# Altium integrated library ON Semi ESD Protection Diodes & Arrays.IntLib: 286 symbols (part 5 of 8)
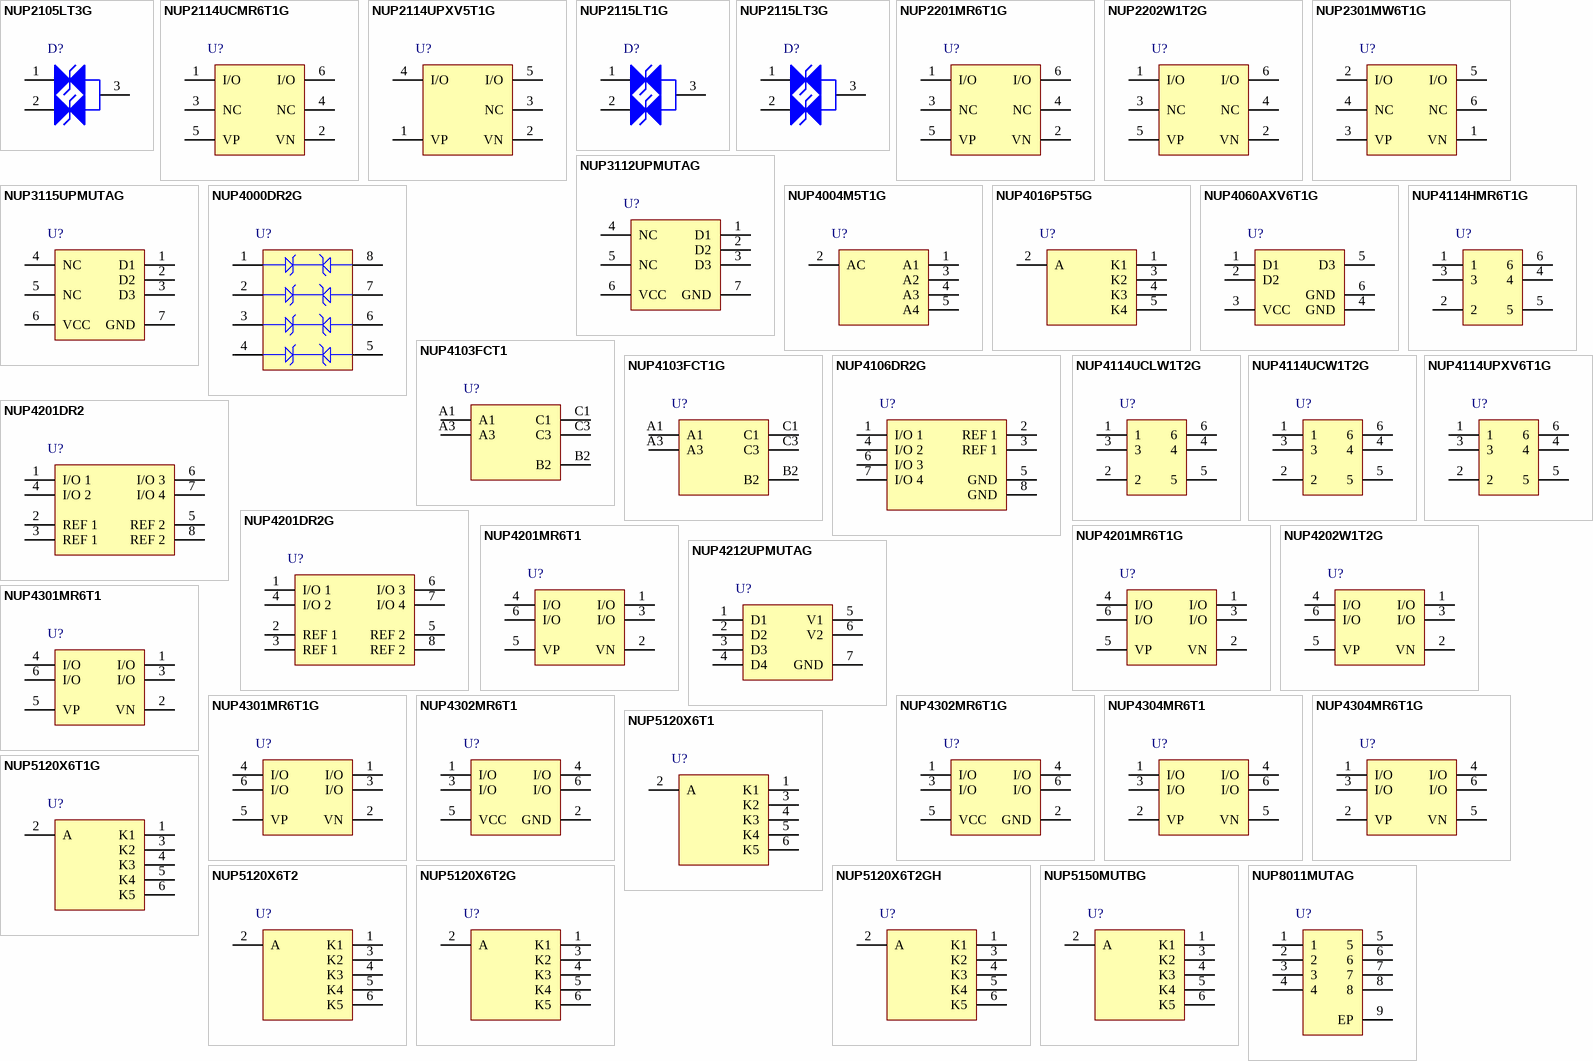
[diagram p11: symbols NUP2105LT3G to NUP8011MUTAG]

## NUP2114UCMR6T1G
designator U?
Transient Voltage Suppressor, Low Capacitance ESD Protection for High Speed Data, 6-Pin TSOP, Pb-Free, Tape and Reel; Manufacturer: On Semiconductor; PartNumber: NUP2114UCMR6T1G; Direction: Unidirectional; IR Max (uA): 1; Number of Lines: 2; V(BR) Min (V): 5.5; VRWM Max (V): 5; DatasheetVersion: Rev. 1; PackageVersion: Rev. V, 06/2012; PackageReference: TSOP-6-318G-02; PackageDescription: 6-Pin Small Outline Package, Body 3 x 1.5 mm, Pitch 0.95 mm; Supplier 1: Digi-Key; Supplier Part Number 1: NUP2114UCMR6T1GOSTR-ND; Supplier 2: Digi-Key; Supplier Part Number 2: NUP2114UCMR6T1GOSCT-ND; Supplier 3: Digi-Key; Supplier Part Number 3: NUP2114UCMR6T1GOSDKR-ND; Supplier 4: Farnell; Supplier Part Number 4: 2317478; Supplier 5: Newark; Supplier Part Number 5: 85W2842; Supplier 6: Newark; Supplier Part Number 6: 13P5622; Supplier 7: Mouser; Supplier Part Number 7: 863-NUP2114UCMR6T1G; Packing: Tape and Reel; RoHS: Pb-Free; Mounting Technology: Surface Mount; ComponentLink1Description: Manufacturer URL; ComponentLink1URL: http://www.onsemi.com/; ComponentLink2Description: Datasheet; ComponentLink2URL: http://www.onsemi.cn/pub_link/Collateral/NUP2114-D.PDF; ComponentLink3Description: Package Specification; ComponentLink3URL: http://www.onsemi.com/pub_link/Collateral/318G-02.PDF
footprint ONSC-TSOP-6-318G-02_V (SOP, 6-Leads, Body 3x1.5mm, Pitch 0.95mm)
pins: 1 I/O, 2 VN (power), 3 NC, 4 NC, 5 VP (power), 6 I/O

## NUP2114UPXV5T1G
designator U?
Transient Voltage Suppressor, Low Capacitance ESD Protection for High Speed Data, 6-Pin TSOP, Pb-Free, Tape and Reel; Manufacturer: On Semiconductor; PartNumber: NUP2114UPXV5T1G; Direction: Unidirectional; IR Max (uA): 1; Number of Lines: 2; V(BR) Min (V): 5.5; VRWM Max (V): 5; DatasheetVersion: Rev. 1; PackageVersion: Rev. V, 06/2012; PackageReference: TSOP-6-318G-02; PackageDescription: 6-Pin Small Outline Package, Body 3 x 1.5 mm, Pitch 0.95 mm; Supplier 1: Digi-Key; Supplier Part Number 1: NUP2114UPXV5T1GOSTR-ND; Supplier 2: Digi-Key; Supplier Part Number 2: NUP2114UPXV5T1GOSCT-ND; Supplier 3: Digi-Key; Supplier Part Number 3: NUP2114UPXV5T1GOSDKR-ND; Supplier 4: Farnell; Supplier Part Number 4: 2317480; Supplier 5: Newark; Supplier Part Number 5: 85W2843; Supplier 6: Newark; Supplier Part Number 6: 05R9190; Supplier 7: Mouser; Supplier Part Number 7: 863-NUP2114UPXV5T1G; Packing: Tape and Reel; RoHS: Pb-Free; Mounting Technology: Surface Mount; ComponentLink1Description: Manufacturer URL; ComponentLink1URL: http://www.onsemi.com/; ComponentLink2Description: Datasheet; ComponentLink2URL: http://www.onsemi.cn/pub_link/Collateral/NUP2114-D.PDF; ComponentLink3Description: Package Specification; ComponentLink3URL: http://www.onsemi.com/pub_link/Collateral/318G-02.PDF
footprint ONSC-TSOP-6-318G-02_V (SOP, 6-Leads, Body 3x1.5mm, Pitch 0.95mm)
pins: 1 VP (power), 2 VN (power), 3 NC, 4 I/O, 5 I/O

## NUP2115LT1G
designator D?
Dual Line FlexRay Bus Protector, 3-Pin SOT-23, Pb-Free, Tape and Reel; Manufacturer: On Semiconductor; PartNumber: NUP2115LT1G; C Max (pF): 10; Direction: Bidirectional; IR Max (uA): 0.1; Number of Lines: 2; PPK Max (W): 200; V(BR) Min (V): 26.2; DatasheetVersion: Rev. 0; PackageVersion: Rev. AP, 11/2009; PackageReference: SOT-23-3-318-08; PackageDescription: 3-Pin Small Outline Transistor, Body 2.92 x 1.3 mm, Pitch 0.95 mm; Supplier 1: Newark; Supplier Part Number 1: 97W6398; Supplier 2: Mouser; Supplier Part Number 2: 863-NUP2115LT1G; Packing: Tape and Reel; RoHS: Pb-Free; Mounting Technology: Surface Mount; ComponentLink1Description: Manufacturer URL; ComponentLink1URL: http://www.onsemi.com/; ComponentLink2Description: Datasheet; ComponentLink2URL: http://www.onsemi.com/pub_link/Collateral/NUP2115L-D.PDF; ComponentLink3Description: Package Specification; ComponentLink3URL: http://www.onsemi.cn/pub_link/Collateral/318-08.PDF
footprint ONSC-SOT-23-3-318-08_V (SOT23, 3-Leads, Body 2.92x1.3mm, Pitch 0.95mm)
pins: 1 K, 2 K, 3 K

## NUP2115LT3G
designator D?
Dual Line FlexRay Bus Protector, 3-Pin SOT-23, Pb-Free, Tape and Reel; Manufacturer: On Semiconductor; PartNumber: NUP2115LT3G; C Max (pF): 10; Direction: Bidirectional; IR Max (uA): 0.1; Number of Lines: 2; PPK Max (W): 200; V(BR) Min (V): 26.2; DatasheetVersion: Rev. 0; PackageVersion: Rev. AP, 11/2009; PackageReference: SOT-23-3-318-08; PackageDescription: 3-Pin Small Outline Transistor, Body 2.92 x 1.3 mm, Pitch 0.95 mm; Supplier 1: Newark; Supplier Part Number 1: 97W6399; Supplier 2: Mouser; Supplier Part Number 2: 863-NUP2115LT3G; Packing: Tape and Reel; RoHS: Pb-Free; Mounting Technology: Surface Mount; ComponentLink1Description: Manufacturer URL; ComponentLink1URL: http://www.onsemi.com/; ComponentLink2Description: Datasheet; ComponentLink2URL: http://www.onsemi.com/pub_link/Collateral/NUP2115L-D.PDF; ComponentLink3Description: Package Specification; ComponentLink3URL: http://www.onsemi.cn/pub_link/Collateral/318-08.PDF
footprint ONSC-SOT-23-3-318-08_V (SOT23, 3-Leads, Body 2.92x1.3mm, Pitch 0.95mm)
pins: 1 K, 2 K, 3 K

## NUP2201MR6T1G
designator U?
Transient Voltage Suppressor, ESD Protection Diodes with Low Clamping Voltage, 6-Pin TSOP, Pb-Free, Tape and Reel; Manufacturer: On Semiconductor; PartNumber: NUP2201MR6T1G; Direction: Bidirectional; IR Max (uA): 5; Number of Lines: 2; PPK Max (W): 500; V(BR) Min (V): 6; DatasheetVersion: Rev. 4; PackageVersion: Rev. V, 06/2012; PackageReference: TSOP-6-318G-02; PackageDescription: 6-Pin Small Outline Package, Body 3 x 1.5 mm, Pitch 0.95 mm; Supplier 1: Digi-Key; Supplier Part Number 1: NUP2201MR6T1GOSTR-ND; Supplier 2: Digi-Key; Supplier Part Number 2: NUP2201MR6T1GOSCT-ND; Supplier 3: Digi-Key; Supplier Part Number 3: NUP2201MR6T1GOSDKR-ND; Supplier 4: Farnell; Supplier Part Number 4: 2317776; Supplier 5: Farnell; Supplier Part Number 5: 2317506; Supplier 6: Newark; Supplier Part Number 6: 88H5136; Supplier 7: Newark; Supplier Part Number 7: 64R8606; Supplier 8: Mouser; Supplier Part Number 8: 863-NUP2201MR6T1G; Packing: Tape and Reel; RoHS: Pb-Free; VRWM Max (V): 5; Mounting Technology: Surface Mount; ComponentLink1Description: Manufacturer URL; ComponentLink1URL: http://www.onsemi.com/; ComponentLink2Description: Datasheet; ComponentLink2URL: http://www.onsemi.cn/pub_link/Collateral/NUP2201MR6-D.PDF; ComponentLink3Description: Package Specification; ComponentLink3URL: http://www.onsemi.com/pub_link/Collateral/318G-02.PDF
footprint ONSC-TSOP-6-318G-02_V (SOP, 6-Leads, Body 3x1.5mm, Pitch 0.95mm)
pins: 1 I/O, 2 VN (power), 3 NC, 4 NC, 5 VP (power), 6 I/O

## NUP2202W1T2G
designator U?
Transient Voltage Suppressor, ESD Protection Diodes with Low Clamping Voltage, 6-Pin SC70, Pb-Free, Tape and Reel; Manufacturer: On Semiconductor; PartNumber: NUP2202W1T2G; Direction: Bidirectional; IR Max (uA): 5; Number of Lines: 2; PPK Max (W): 500; V(BR) Min (V): 6; DatasheetVersion: Rev. 3; PackageVersion: Rev. W; PackageReference: SC70-6-419B-02_W; PackageDescription: 6-Pin Small Outline Transistor, Body 2 x 1.25 mm, Pitch 0.65 mm; Supplier 1: Digi-Key; Supplier Part Number 1: NUP2202W1T2GOSTR-ND; Supplier 2: Digi-Key; Supplier Part Number 2: NUP2202W1T2GOSCT-ND; Supplier 3: Digi-Key; Supplier Part Number 3: NUP2202W1T2GOSDKR-ND; Supplier 4: Newark; Supplier Part Number 4: 83K8702; Supplier 5: Mouser; Supplier Part Number 5: 863-NUP2202W1T2G; Packing: Tape and Reel; RoHS: Pb-Free; VRWM Max (V): 5; Mounting Technology: Surface Mount; ComponentLink1Description: Manufacturer URL; ComponentLink1URL: http://www.onsemi.com/; ComponentLink2Description: Datasheet; ComponentLink2URL: http://www.onsemi.cn/pub_link/Collateral/NUP2202W1-D.PDF; ComponentLink3Description: Package Specification; ComponentLink3URL: http://www.onsemi.com/pub_link/Collateral/SMF05C-D.PDF
footprint ONSC-SC70-6-419B-02_W_V (SOT23, 6-Leads, Body 2x1.25mm, Pitch 0.65mm)
pins: 1 I/O, 2 VN (power), 3 NC, 4 NC, 5 VP (power), 6 I/O

## NUP2301MW6T1G
designator U?
Low Capacitance Diode Array for ESD Protection in Two Data Lines, 6-Pin SC70, Pb-Free, Tape and Reel; Manufacturer: On Semiconductor; PartNumber: NUP2301MW6T1G; Direction: Bidirectional; Number of Lines: 2; V(BR) Min (V): 70; DatasheetVersion: Rev. 5; PackageVersion: Rev. W; PackageReference: SC70-6-419B-02_W; PackageDescription: 6-Pin Small Outline Transistor, Body 2 x 1.25 mm, Pitch 0.65 mm; Supplier 1: Digi-Key; Supplier Part Number 1: NUP2301MW6T1GOSTR-ND; Supplier 2: Digi-Key; Supplier Part Number 2: NUP2301MW6T1GOSCT-ND; Supplier 3: Digi-Key; Supplier Part Number 3: NUP2301MW6T1GOSDKR-ND; Supplier 4: Newark; Supplier Part Number 4: 10N9594; Supplier 5: Newark; Supplier Part Number 5: 45J2203; Supplier 6: Mouser; Supplier Part Number 6: 863-NUP2301MW6T1G; Packing: Tape and Reel; RoHS: Pb-Free; Mounting Technology: Surface Mount; ComponentLink1Description: Manufacturer URL; ComponentLink1URL: http://www.onsemi.com/; ComponentLink2Description: Datasheet; ComponentLink2URL: http://www.onsemi.cn/pub_link/Collateral/NUP2301MW6T1-D.PDF; ComponentLink3Description: Package Specification; ComponentLink3URL: http://www.onsemi.com/pub_link/Collateral/SMF05C-D.PDF
footprint ONSC-SC70-6-419B-02_W_V (SOT23, 6-Leads, Body 2x1.25mm, Pitch 0.65mm)
pins: 1 VN (power), 2 I/O, 3 VP (power), 4 NC, 5 I/O, 6 NC

## NUP3112UPMUTAG
designator U?
Quad Transient Voltage Suppressor Array, ESD Protection Diodes with Ultra-Low (0.7 pF) Capacitance, 6-Pin UDFN, Pb-Free, Tape and Reel; Manufacturer: On Semiconductor; PartNumber: NUP3112UPMUTAG; C Max (pF): 0.9; Direction: Unidirectional; IR Max (uA): 1; Number of Lines: 4; DatasheetVersion: Rev. 0; PackageVersion: Rev. O, 10/2007; PackageReference: UDFN-6-517AP-01; PackageDescription: 6-Pin Small Outline No-Lead, Body 1.6 x 1.6 mm, Pitch 0.5 mm; Supplier 1: Digi-Key; Supplier Part Number 1: NUP3112UPMUTAG-ND; Supplier 2: Mouser; Supplier Part Number 2: 863-NUP3112UPMUTAG; Packing: Tape and Reel; RoHS: Pb-Free; Mounting Technology: Surface Mount; ComponentLink1Description: Manufacturer URL; ComponentLink1URL: http://www.onsemi.com/; ComponentLink2Description: Datasheet; ComponentLink2URL: http://www.onsemi.cn/pub_link/Collateral/NUP3112UPMU-D.PDF; ComponentLink3Description: Package Specification; ComponentLink3URL: http://www.onsemi.com/pub_link/Collateral/517AP.PDF
footprint ONSC-UDFN-6-517AP-01_V (SON, 6-Leads, Body 1.6x1.6mm, Pitch 0.5mm, Thermal Pad 1.26x0.61mm)
pins: 1 D1, 2 D2, 3 D3, 4 NC, 5 NC, 6 VCC (power), 7 GND (power)

## NUP3115UPMUTAG
designator U?
Transient Voltage Suppressor, Low Capacitance ESD Protection for High Speed Data, 6-Pin UDFN, Pb-Free, Tape and Reel; Manufacturer: On Semiconductor; PartNumber: NUP3115UPMUTAG; C Max (pF): 1; Direction: Bidirectional; Number of Lines: 4; DatasheetVersion: Rev. 2; PackageVersion: Rev. O, 10/2007; PackageReference: UDFN-6-517AP-01; PackageDescription: 6-Pin Small Outline No-Lead, Body 1.6 x 1.6 mm, Pitch 0.5 mm; Supplier 1: Digi-Key; Supplier Part Number 1: NUP3115UPMUTAG-ND; Supplier 2: Mouser; Supplier Part Number 2: 863-NUP3115UPMUTAG; Packing: Tape and Reel; RoHS: Pb-Free; Mounting Technology: Surface Mount; ComponentLink1Description: Manufacturer URL; ComponentLink1URL: http://www.onsemi.com/; ComponentLink2Description: Datasheet; ComponentLink2URL: http://www.onsemi.cn/pub_link/Collateral/NUP3115UPMU-D.PDF; ComponentLink3Description: Package Specification; ComponentLink3URL: http://www.onsemi.com/pub_link/Collateral/517AP.PDF
footprint ONSC-UDFN-6-517AP-01_V (SON, 6-Leads, Body 1.6x1.6mm, Pitch 0.5mm, Thermal Pad 1.26x0.61mm)
pins: 1 D1, 2 D2, 3 D3, 4 NC, 5 NC, 6 VCC (power), 7 GND (power)

## NUP4000DR2G
designator U?
Bi-Directional TVS Array for High-Speed Data Line Protection, 8-Pin SOIC, Pb-Free, Tape and Reel; Manufacturer: On Semiconductor; PartNumber: NUP4000DR2G; C Max (pF): 75; Direction: Bidirectional; IR Max (uA): 1; Number of Lines: 8; PPK Max (W): 400; V(BR) Min (V): 16.7; VRWM Max (V): 15; DatasheetVersion: Rev. 0; PackageVersion: Rev. AK, 02/2011; PackageReference: SOIC-8-751-07; PackageDescription: 8-Pin Small Outline Integrated Circuit, Body 4.9 x 3.9 mm, Pitch 1.27 mm; Supplier 1: Digi-Key; Supplier Part Number 1: NUP4000DR2G-ND; Supplier 2: Mouser; Supplier Part Number 2: 863-NUP4000DR2G; Packing: Tape and Reel; RoHS: Pb-Free; Mounting Technology: Surface Mount; ComponentLink1Description: Manufacturer URL; ComponentLink1URL: http://www.onsemi.com/; ComponentLink2Description: Datasheet; ComponentLink2URL: http://www.onsemi.cn/pub_link/Collateral/NUP4000-D.PDF; ComponentLink3Description: Package Specification; ComponentLink3URL: http://www.onsemi.com/pub_link/Collateral/751-07.PDF
footprint ONSC-SOIC-8-751-07_V (SOIC, 8-Leads, Body 4.9x3.9mm, Pitch 1.27mm)
pins: 1 A1, 2 A2, 3 A3, 4 A4, 5 A5, 6 A6, 7 A7, 8 A8

## NUP4004M5T1G
designator U?
Bi-Directional Quad TVS Array, 5-Pin TSOP, Pb-Free, Tape and Reel; Manufacturer: On Semiconductor; PartNumber: NUP4004M5T1G; Direction: Bidirectional; IR Max (uA): 1; Number of Lines: 4; VRWM Max (V): 5; DatasheetVersion: Rev. 2; PackageVersion: Rev. K, 04/2013; PackageReference: TSOP-5-483-02; PackageDescription: 5-Pin Small Outline Package, Body 3 x 1.5 mm, Pitch 0.95 mm; Supplier 1: Digi-Key; Supplier Part Number 1: NUP4004M5T1GOSTR-ND; Supplier 2: Digi-Key; Supplier Part Number 2: NUP4004M5T1GOSCT-ND; Supplier 3: Digi-Key; Supplier Part Number 3: NUP4004M5T1GOSDKR-ND; Supplier 4: Farnell; Supplier Part Number 4: 2317504; Supplier 5: Newark; Supplier Part Number 5: 85W2845; Supplier 6: Newark; Supplier Part Number 6: 57M9915; Supplier 7: Mouser; Supplier Part Number 7: 863-NUP4004M5T1G; Packing: Tape and Reel; RoHS: Pb-Free; Mounting Technology: Surface Mount; ComponentLink1Description: Manufacturer URL; ComponentLink1URL: http://www.onsemi.com/; ComponentLink2Description: Datasheet; ComponentLink2URL: http://www.onsemi.cn/pub_link/Collateral/NUP4004M5-D.PDF; ComponentLink3Description: Package Specification; ComponentLink3URL: http://www.onsemi.com/pub_link/Collateral/483.PDF
footprint ONSC-TSOP-5-483-02_V (SOP, 5-Leads, Body 3x1.5mm, Pitch 0.95mm)
pins: 1 A1, 2 AC, 3 A2, 4 A3, 5 A4

## NUP4016P5T5G
designator U?
Ultra-Low Capacitance Diode-TVS Array for High Speed Data Line Protection, 5-Pin SOT-953, Pb-Free, Tape and Reel; Manufacturer: On Semiconductor; PartNumber: NUP4016P5T5G; Direction: Unidirectional; IR Max (uA): 1; Number of Lines: 4; V(BR) Min (V): 5.5; VRWM Max (V): 5; DatasheetVersion: Rev. 4; PackageVersion: Rev. E, 08/2011; PackageReference: SOT-953-5-527AE; PackageDescription: 5-Pin Small Outline Transistor, Body 1 x 0.8 mm, Pitch 0.35 mm; Supplier 1: Digi-Key; Supplier Part Number 1: NUP4016P5T5G-ND; Supplier 2: Mouser; Supplier Part Number 2: 863-NUP4016P5T5G; Packing: Tape and Reel; RoHS: Pb-Free; Mounting Technology: Surface Mount; ComponentLink1Description: Manufacturer URL; ComponentLink1URL: http://www.onsemi.com/; ComponentLink2Description: Datasheet; ComponentLink2URL: http://www.onsemi.cn/pub_link/Collateral/NUP4016P5-D.PDF; ComponentLink3Description: Package Specification; ComponentLink3URL: http://www.onsemi.com/pub_link/Collateral/527AE.PDF
footprint ONSC-SOT-953-5-527AE_V (SOT23, 5-Leads, Body 1x0.8mm, Pitch 0.35mm)
pins: 1 K1, 2 A, 3 K2, 4 K3, 5 K4

## NUP4060AXV6T1G
designator U?
4-Line Transient Voltage Suppressor Array, 6-Pin SOT-563, Pb-Free, Tape and Reel; Manufacturer: On Semiconductor; PartNumber: NUP4060AXV6T1G; C Max (pF): 10; Direction: Unidirectional; Number of Lines: 4; VRWM Max (V): 5; DatasheetVersion: Rev. 1; PackageVersion: Rev. F, 04/2005; PackageReference: SOT-563-6-463A-01; PackageDescription: 6-Pin Small Outline Transistor, Body 1.6 x 1.2 mm, Pitch 0.5 mm; Supplier 1: Digi-Key; Supplier Part Number 1: NUP4060AXV6T1GOSTR-ND; Supplier 2: Digi-Key; Supplier Part Number 2: NUP4060AXV6T1GOSCT-ND; Supplier 3: Mouser; Supplier Part Number 3: 863-NUP4060AXV6T1G; Packing: Tape and Reel; RoHS: Pb-Free; Mounting Technology: Surface Mount; ComponentLink1Description: Manufacturer URL; ComponentLink1URL: http://www.onsemi.com/; ComponentLink2Description: Datasheet; ComponentLink2URL: http://www.onsemi.cn/pub_link/Collateral/NUP4060AXV6-D.PDF; ComponentLink3Description: Package Specification; ComponentLink3URL: http://www.onsemi.cn/pub_link/Collateral/463A-01.PDF
footprint ONSC-SOT-563-6-463A-01_V (SOT23, 6-Leads, Body 1.6x1.2mm, Pitch 0.5mm)
pins: 1 D1, 2 D2, 3 VCC (power), 4 GND (power), 5 D3, 6 GND (power)

## NUP4103FCT1
designator U?
Four Channel ESD Array, 5-Pin FLIP-CHIP_CSP, Tape and Reel; Manufacturer: On Semiconductor; PartNumber: NUP4103FCT1; Direction: Unidirectional; IR Max (uA): 0.1; Number of Lines: 4; V(BR) Min (V): 6; VRWM Max (V): 5.5; DatasheetVersion: Rev. 1; PackageVersion: Rev. O, 06/2003; PackageReference: FLIP-CHIP_CSP-5-766AB-01; PackageDescription: 5-Ball Flip Chip Ball Grid Array, Body 1.33 x 0.96 mm; Supplier 1: Digi-Key; Supplier Part Number 1: NUP4103FCT1-ND; Packing: Tape and Reel; Mounting Technology: Surface Mount; ComponentLink1Description: Manufacturer URL; ComponentLink1URL: http://www.onsemi.com/; ComponentLink2Description: Datasheet; ComponentLink2URL: http://www.onsemi.com/pub_link/Collateral/NUP4103FCT1-D.PDF; ComponentLink3Description: Package Specification; ComponentLink3URL: http://www.onsemi.com/pub_link/Collateral/766AB.PDF
footprint ONSC-FLIP-CHIP_CSP-5-766AB-01 (BGA, 5-Balls, Body 1.33x0.96mm)
pins: A1, A3, B2 (power), C1, C3

## NUP4103FCT1G
designator U?
Four Channel ESD Array, 5-Pin FLIP-CHIP_CSP, Pb-Free, Tape and Reel; Manufacturer: On Semiconductor; PartNumber: NUP4103FCT1G; Direction: Unidirectional; IR Max (uA): 0.1; Number of Lines: 4; V(BR) Min (V): 6; VRWM Max (V): 5.5; DatasheetVersion: Rev. 1; PackageVersion: Rev. O, 06/2003; PackageReference: FLIP-CHIP_CSP-5-766AB-01; PackageDescription: 5-Ball Flip Chip Ball Grid Array, Body 1.33 x 0.96 mm; Supplier 1: Digi-Key; Supplier Part Number 1: NUP4103FCT1GOSTR-ND; Supplier 2: Digi-Key; Supplier Part Number 2: NUP4103FCT1GOSCT-ND; Supplier 3: Digi-Key; Supplier Part Number 3: NUP4103FCT1GOSDKR-ND; Supplier 4: Newark; Supplier Part Number 4: 45J2204; Supplier 5: Mouser; Supplier Part Number 5: 863-NUP4103FCT1G; Packing: Tape and Reel; RoHS: Pb-Free; Mounting Technology: Surface Mount; ComponentLink1Description: Manufacturer URL; ComponentLink1URL: http://www.onsemi.com/; ComponentLink2Description: Datasheet; ComponentLink2URL: http://www.onsemi.com/pub_link/Collateral/NUP4103FCT1-D.PDF; ComponentLink3Description: Package Specification; ComponentLink3URL: http://www.onsemi.com/pub_link/Collateral/766AB.PDF
footprint ONSC-FLIP-CHIP_CSP-5-766AB-01 (BGA, 5-Balls, Body 1.33x0.96mm)
pins: A1, A3, B2 (power), C1, C3

## NUP4106DR2G
designator U?
Low Capacitance Surface Mount TVS for High-Speed Data Interfaces, 8-Pin SOIC, Pb-Free, Tape and Reel; Manufacturer: On Semiconductor; PartNumber: NUP4106DR2G; C Max (pF): 15; Direction: Unidirectional; IR Max (uA): 5; Number of Lines: 4; PPK Max (W): 500; DatasheetVersion: Rev. 0; PackageVersion: Rev. AK, 02/2011; PackageReference: SOIC-8-751-07; PackageDescription: 8-Pin Small Outline Integrated Circuit, Body 4.9 x 3.9 mm, Pitch 1.27 mm; Supplier 1: Digi-Key; Supplier Part Number 1: NUP4106DR2G-ND; Supplier 2: Newark; Supplier Part Number 2: 05R9192; Supplier 3: Mouser; Supplier Part Number 3: 863-NUP4106DR2G; Packing: Tape and Reel; RoHS: Pb-Free; V(BR) Min (V): 5; Mounting Technology: Surface Mount; ComponentLink1Description: Manufacturer URL; ComponentLink1URL: http://www.onsemi.com/; ComponentLink2Description: Datasheet; ComponentLink2URL: http://www.onsemi.com/pub_link/Collateral/NUP4106-D.PDF; ComponentLink3Description: Package Specification; ComponentLink3URL: http://www.onsemi.com/pub_link/Collateral/751-07.PDF
footprint ONSC-SOIC-8-751-07_V (SOIC, 8-Leads, Body 4.9x3.9mm, Pitch 1.27mm)
pins: 1 I/O 1, 2 REF 1, 3 REF 1, 4 I/O 2, 5 GND (power), 6 I/O 3, 7 I/O 4, 8 GND (power)

## NUP4114HMR6T1G
designator U?
Transient Voltage Suppressor, ESD Protection Diodes with Low Clamping Voltage, 6-Pin TSOP, Pb-Free, Tape and Reel; Manufacturer: On Semiconductor; PartNumber: NUP4114HMR6T1G; Direction: Unidirectional; IR Max (uA): 1; Number of Lines: 4; V(BR) Min (V): 5.5; DatasheetVersion: Rev. 2; PackageVersion: Rev. V, 06/2012; PackageReference: TSOP-6-318G-02; PackageDescription: 6-Pin Small Outline Package, Body 3 x 1.5 mm, Pitch 0.95 mm; Supplier 1: Digi-Key; Supplier Part Number 1: NUP4114HMR6T1GOSTR-ND; Supplier 2: Digi-Key; Supplier Part Number 2: NUP4114HMR6T1GOSCT-ND; Supplier 3: Digi-Key; Supplier Part Number 3: NUP4114HMR6T1GOSDKR-ND; Supplier 4: Newark; Supplier Part Number 4: 13P5626; Supplier 5: Mouser; Supplier Part Number 5: 863-NUP4114HMR6T1G; Packing: Tape and Reel; RoHS: Pb-Free; VRWM Max (V): 5.5; Mounting Technology: Surface Mount; ComponentLink1Description: Manufacturer URL; ComponentLink1URL: http://www.onsemi.com/; ComponentLink2Description: Datasheet; ComponentLink2URL: http://www.onsemi.com/pub_link/Collateral/NUP4114-D.PDF; ComponentLink3Description: Package Specification; ComponentLink3URL: http://www.onsemi.com/pub_link/Collateral/318G-02.PDF
footprint ONSC-TSOP-6-318G-02_V (SOP, 6-Leads, Body 3x1.5mm, Pitch 0.95mm)
pins: 1, 2, 3, 4, 5, 6

## NUP4114UCLW1T2G
designator U?
Transient Voltage Suppressor, ESD Protection Diodes with Low Clamping Voltage, 6-Pin SC70, Pb-Free, Tape and Reel; Manufacturer: On Semiconductor; PartNumber: NUP4114UCLW1T2G; Direction: Unidirectional; IR Max (uA): 1; Number of Lines: 4; V(BR) Min (V): 5.5; DatasheetVersion: Rev. 2; PackageVersion: Rev. W; PackageReference: SC70-6-419B-02_W; PackageDescription: 6-Pin Small Outline Transistor, Body 2 x 1.25 mm, Pitch 0.65 mm; Supplier 1: Digi-Key; Supplier Part Number 1: NUP4114UCLW1T2G-ND; Supplier 2: Mouser; Supplier Part Number 2: 863-NUP4114UCLW1T2G; Packing: Tape and Reel; RoHS: Pb-Free; VRWM Max (V): 5.5; Mounting Technology: Surface Mount; ComponentLink1Description: Manufacturer URL; ComponentLink1URL: http://www.onsemi.com/; ComponentLink2Description: Datasheet; ComponentLink2URL: http://www.onsemi.com/pub_link/Collateral/NUP4114-D.PDF; ComponentLink3Description: Package Specification; ComponentLink3URL: http://www.onsemi.com/pub_link/Collateral/SMF05C-D.PDF
footprint ONSC-SC70-6-419B-02_W_V (SOT23, 6-Leads, Body 2x1.25mm, Pitch 0.65mm)
pins: 1, 2, 3, 4, 5, 6

## NUP4114UCW1T2G
designator U?
Transient Voltage Suppressor, ESD Protection Diodes with Low Clamping Voltage, 6-Pin SC70, Pb-Free, Tape and Reel; Manufacturer: On Semiconductor; PartNumber: NUP4114UCW1T2G; Direction: Unidirectional; IR Max (uA): 1; Number of Lines: 4; V(BR) Min (V): 5.5; DatasheetVersion: Rev. 2; PackageVersion: Rev. W; PackageReference: SC70-6-419B-02_W; PackageDescription: 6-Pin Small Outline Transistor, Body 2 x 1.25 mm, Pitch 0.65 mm; Supplier 1: Digi-Key; Supplier Part Number 1: NUP4114UCW1T2G-ND; Supplier 2: Mouser; Supplier Part Number 2: 863-NUP4114UCW1T2G; Packing: Tape and Reel; RoHS: Pb-Free; VRWM Max (V): 5.5; Mounting Technology: Surface Mount; ComponentLink1Description: Manufacturer URL; ComponentLink1URL: http://www.onsemi.com/; ComponentLink2Description: Datasheet; ComponentLink2URL: http://www.onsemi.com/pub_link/Collateral/NUP4114-D.PDF; ComponentLink3Description: Package Specification; ComponentLink3URL: http://www.onsemi.com/pub_link/Collateral/SMF05C-D.PDF
footprint ONSC-SC70-6-419B-02_W_V (SOT23, 6-Leads, Body 2x1.25mm, Pitch 0.65mm)
pins: 1, 2, 3, 4, 5, 6

## NUP4114UPXV6T1G
designator U?
Transient Voltage Suppressor, ESD Protection Diodes with Low Clamping Voltage, 6-Pin SOT-563, Pb-Free, Tape and Reel; Manufacturer: On Semiconductor; PartNumber: NUP4114UPXV6T1G; Direction: Unidirectional; IR Max (uA): 1; Number of Lines: 4; V(BR) Min (V): 5.5; DatasheetVersion: Rev. 2; PackageVersion: Rev. F, 04/2005; PackageReference: SOT-563-6-463A-01; PackageDescription: 6-Pin Small Outline Transistor, Body 1.6 x 1.2 mm, Pitch 0.5 mm; Supplier 1: Digi-Key; Supplier Part Number 1: NUP4114UPXV6T1GOSTR-ND; Supplier 2: Digi-Key; Supplier Part Number 2: NUP4114UPXV6T1GOSCT-ND; Supplier 3: Digi-Key; Supplier Part Number 3: NUP4114UPXV6T1GOSDKR-ND; Supplier 4: Newark; Supplier Part Number 4: 13P5627; Supplier 5: Mouser; Supplier Part Number 5: 863-NUP4114UPXV6T1G; Packing: Tape and Reel; RoHS: Pb-Free; VRWM Max (V): 5.5; Mounting Technology: Surface Mount; ComponentLink1Description: Manufacturer URL; ComponentLink1URL: http://www.onsemi.com/; ComponentLink2Description: Datasheet; ComponentLink2URL: http://www.onsemi.com/pub_link/Collateral/NUP4114-D.PDF; ComponentLink3Description: Package Specification; ComponentLink3URL: http://www.onsemi.cn/pub_link/Collateral/463A-01.PDF
footprint ONSC-SOT-563-6-463A-01_V (SOT23, 6-Leads, Body 1.6x1.2mm, Pitch 0.5mm)
pins: 1, 2, 3, 4, 5, 6

## NUP4201DR2
designator U?
Low Capacitance Surface Mount TVS for High-Speed Data Interface, 8-Pin SOIC, Tape and Reel; Manufacturer: On Semiconductor; PartNumber: NUP4201DR2; Direction: Unidirectional; IR Max (uA): 10; Number of Lines: 4; PPK Max (W): 500; V(BR) Min (V): 6; DatasheetVersion: Rev. 6; PackageVersion: Rev. AK, 02/2011; PackageReference: SOIC-8-751-07; PackageDescription: 8-Pin Small Outline Integrated Circuit, Body 4.9 x 3.9 mm, Pitch 1.27 mm; Supplier 1: Digi-Key; Supplier Part Number 1: NUP4201DR2OSTR-ND; Supplier 2: Digi-Key; Supplier Part Number 2: NUP4201DR2OSCT-ND; Packing: Tape and Reel; Mounting Technology: Surface Mount; ComponentLink1Description: Manufacturer URL; ComponentLink1URL: http://www.onsemi.com/; ComponentLink2Description: Datasheet; ComponentLink2URL: http://www.onsemi.com/pub_link/Collateral/NUP4201DR2-D.PDF; ComponentLink3Description: Package Specification; ComponentLink3URL: http://www.onsemi.com/pub_link/Collateral/751-07.PDF
footprint ONSC-SOIC-8-751-07_V (SOIC, 8-Leads, Body 4.9x3.9mm, Pitch 1.27mm)
pins: 1 I/O 1, 2 REF 1, 3 REF 1, 4 I/O 2, 5 REF 2, 6 I/O 3, 7 I/O 4, 8 REF 2

## NUP4201DR2G
designator U?
Low Capacitance Surface Mount TVS for High-Speed Data Interface, 8-Pin SOIC, Pb-Free, Tape and Reel; Manufacturer: On Semiconductor; PartNumber: NUP4201DR2G; Direction: Unidirectional; IR Max (uA): 10; Number of Lines: 4; PPK Max (W): 500; V(BR) Min (V): 6; DatasheetVersion: Rev. 6; PackageVersion: Rev. AK, 02/2011; PackageReference: SOIC-8-751-07; PackageDescription: 8-Pin Small Outline Integrated Circuit, Body 4.9 x 3.9 mm, Pitch 1.27 mm; Supplier 1: Digi-Key; Supplier Part Number 1: NUP4201DR2GOSTR-ND; Supplier 2: Digi-Key; Supplier Part Number 2: NUP4201DR2GOSCT-ND; Supplier 3: Digi-Key; Supplier Part Number 3: NUP4201DR2GOSDKR-ND; Supplier 4: Farnell; Supplier Part Number 4: 1703035; Supplier 5: Farnell; Supplier Part Number 5: 1703035RL; Supplier 6: Newark; Supplier Part Number 6: 50M2119; Supplier 7: Mouser; Supplier Part Number 7: 863-NUP4201DR2G; Packing: Tape and Reel; RoHS: Pb-Free; Mounting Technology: Surface Mount; ComponentLink1Description: Manufacturer URL; ComponentLink1URL: http://www.onsemi.com/; ComponentLink2Description: Datasheet; ComponentLink2URL: http://www.onsemi.com/pub_link/Collateral/NUP4201DR2-D.PDF; ComponentLink3Description: Package Specification; ComponentLink3URL: http://www.onsemi.com/pub_link/Collateral/751-07.PDF
footprint ONSC-SOIC-8-751-07_V (SOIC, 8-Leads, Body 4.9x3.9mm, Pitch 1.27mm)
pins: 1 I/O 1, 2 REF 1, 3 REF 1, 4 I/O 2, 5 REF 2, 6 I/O 3, 7 I/O 4, 8 REF 2

## NUP4201MR6T1
designator U?
Transient Voltage Suppressor, ESD Protection Diodes with Low Clamping Voltage, 6-Pin TSOP, Tape and Reel; Manufacturer: On Semiconductor; PartNumber: NUP4201MR6T1; Direction: Unidirectional; IR Max (uA): 5; Number of Lines: 4; PPK Max (W): 500; V(BR) Min (V): 6; DatasheetVersion: Rev. 5; PackageVersion: Rev. V, 06/2012; PackageReference: TSOP-6-318G-02; PackageDescription: 6-Pin Small Outline Package, Body 3 x 1.5 mm, Pitch 0.95 mm; Supplier 1: Digi-Key; Supplier Part Number 1: NUP4201MR6T1OSTR-ND; Supplier 2: Digi-Key; Supplier Part Number 2: NUP4201MR6T1OSCT-ND; Packing: Tape and Reel; VRWM Max (V): 5; Mounting Technology: Surface Mount; ComponentLink1Description: Manufacturer URL; ComponentLink1URL: http://www.onsemi.com/; ComponentLink2Description: Datasheet; ComponentLink2URL: http://www.onsemi.com/pub_link/Collateral/NUP4201MR6-D.PDF; ComponentLink3Description: Package Specification; ComponentLink3URL: http://www.onsemi.com/pub_link/Collateral/318G-02.PDF
footprint ONSC-TSOP-6-318G-02_V (SOP, 6-Leads, Body 3x1.5mm, Pitch 0.95mm)
pins: 1 I/O, 2 VN (power), 3 I/O, 4 I/O, 5 VP (power), 6 I/O

## NUP4201MR6T1G
designator U?
Transient Voltage Suppressor, ESD Protection Diodes with Low Clamping Voltage, 6-Pin TSOP, Pb-Free, Tape and Reel; Manufacturer: On Semiconductor; PartNumber: NUP4201MR6T1G; Direction: Unidirectional; IR Max (uA): 5; Number of Lines: 4; PPK Max (W): 500; V(BR) Min (V): 6; DatasheetVersion: Rev. 5; PackageVersion: Rev. V, 06/2012; PackageReference: TSOP-6-318G-02; PackageDescription: 6-Pin Small Outline Package, Body 3 x 1.5 mm, Pitch 0.95 mm; Supplier 1: Digi-Key; Supplier Part Number 1: NUP4201MR6T1GOSTR-ND; Supplier 2: Digi-Key; Supplier Part Number 2: NUP4201MR6T1GOSCT-ND; Supplier 3: Digi-Key; Supplier Part Number 3: NUP4201MR6T1GOSDKR-ND; Supplier 4: Farnell; Supplier Part Number 4: 2101832; Supplier 5: Farnell; Supplier Part Number 5: 2317784; Supplier 6: Newark; Supplier Part Number 6: 71J7072; Supplier 7: Newark; Supplier Part Number 7: 06R3478; Supplier 8: Mouser; Supplier Part Number 8: 863-NUP4201MR6T1G; Packing: Tape and Reel; RoHS: Pb-Free; VRWM Max (V): 5; Mounting Technology: Surface Mount; ComponentLink1Description: Manufacturer URL; ComponentLink1URL: http://www.onsemi.com/; ComponentLink2Description: Datasheet; ComponentLink2URL: http://www.onsemi.com/pub_link/Collateral/NUP4201MR6-D.PDF; ComponentLink3Description: Package Specification; ComponentLink3URL: http://www.onsemi.com/pub_link/Collateral/318G-02.PDF
footprint ONSC-TSOP-6-318G-02_V (SOP, 6-Leads, Body 3x1.5mm, Pitch 0.95mm)
pins: 1 I/O, 2 VN (power), 3 I/O, 4 I/O, 5 VP (power), 6 I/O

## NUP4202W1T2G
designator U?
Transient Voltage Suppressor, ESD Protection Diodes with Low Clamping Voltage, 6-Pin SC70, Pb-Free, Tape and Reel; Manufacturer: On Semiconductor; PartNumber: NUP4202W1T2G; Direction: Bidirectional; IR Max (uA): 5; Number of Lines: 4; PPK Max (W): 500; V(BR) Min (V): 6; DatasheetVersion: Rev. 3; PackageVersion: Rev. W; PackageReference: SC70-6-419B-02_W; PackageDescription: 6-Pin Small Outline Transistor, Body 2 x 1.25 mm, Pitch 0.65 mm; Supplier 1: Digi-Key; Supplier Part Number 1: NUP4202W1T2GOSTR-ND; Supplier 2: Digi-Key; Supplier Part Number 2: NUP4202W1T2GOSCT-ND; Supplier 3: Digi-Key; Supplier Part Number 3: NUP4202W1T2GOSDKR-ND; Supplier 4: Newark; Supplier Part Number 4: 83K8704; Supplier 5: Mouser; Supplier Part Number 5: 863-NUP4202W1T2G; Packing: Tape and Reel; RoHS: Pb-Free; VRWM Max (V): 5; Mounting Technology: Surface Mount; ComponentLink1Description: Manufacturer URL; ComponentLink1URL: http://www.onsemi.com/; ComponentLink2Description: Datasheet; ComponentLink2URL: http://www.onsemi.com/pub_link/Collateral/NUP4202W1-D.PDF; ComponentLink3Description: Package Specification; ComponentLink3URL: http://www.onsemi.com/pub_link/Collateral/SMF05C-D.PDF
footprint ONSC-SC70-6-419B-02_W_V (SOT23, 6-Leads, Body 2x1.25mm, Pitch 0.65mm)
pins: 1 I/O, 2 VN (power), 3 I/O, 4 I/O, 5 VP (power), 6 I/O

## NUP4212UPMUTAG
designator U?
Quad Transient Voltage Suppressor Array, ESD Protection Diodes with Ultra-Low (0.7 pF) Capacitance, 6-Pin UDFN, Pb-Free, Tape and Reel; Manufacturer: On Semiconductor; PartNumber: NUP4212UPMUTAG; C Max (pF): 0.9; Direction: Unidirectional; IR Max (uA): 1; Number of Lines: 6; DatasheetVersion: Rev. 1; PackageVersion: Rev. O, 10/2007; PackageReference: UDFN-6-517AP-01; PackageDescription: 6-Pin Small Outline No-Lead, Body 1.6 x 1.6 mm, Pitch 0.5 mm; Supplier 1: Digi-Key; Supplier Part Number 1: NUP4212UPMUTAG-ND; Supplier 2: Mouser; Supplier Part Number 2: 863-NUP4212UPMUTAG; Packing: Tape and Reel; RoHS: Pb-Free; Mounting Technology: Surface Mount; ComponentLink1Description: Manufacturer URL; ComponentLink1URL: http://www.onsemi.com/; ComponentLink2Description: Datasheet; ComponentLink2URL: http://www.onsemi.com/pub/Collateral/NUP4212UPMU-D.PDF; ComponentLink3Description: Package Specification; ComponentLink3URL: http://www.onsemi.com/pub_link/Collateral/517AP.PDF
footprint ONSC-UDFN-6-517AP-01_V (SON, 6-Leads, Body 1.6x1.6mm, Pitch 0.5mm, Thermal Pad 1.26x0.61mm)
pins: 1 D1, 2 D2, 3 D3, 4 D4, 5 V1, 6 V2, 7 GND (power)

## NUP4301MR6T1
designator U?
Low Capacitance Diode Array for ESD Protection in Four Data Lines, 6-Pin SC-74, Tape and Reel; Manufacturer: On Semiconductor; PartNumber: NUP4301MR6T1; Direction: Bidirectional; Number of Lines: 4; V(BR) Min (V): 70; DatasheetVersion: Rev. 6; PackageVersion: Rev. N, 06/2012; PackageReference: SC-74-6-318F-05; PackageDescription: 6-Pin Small Outline Transistor, Body 3 x 1.5 mm, Pitch 0.95 mm; Supplier 1: Digi-Key; Supplier Part Number 1: NUP4301MR6T1OS-ND; Packing: Tape and Reel; Mounting Technology: Surface Mount; ComponentLink1Description: Manufacturer URL; ComponentLink1URL: http://www.onsemi.com/; ComponentLink2Description: Datasheet; ComponentLink2URL: http://www.onsemi.com/pub/Collateral/NUP4301MR6T1-D.PDF; ComponentLink3Description: Package Specification; ComponentLink3URL: http://www.onsemi.com/pub_link/Collateral/318F-05.PDF
footprint ONSC-SC-74-6-318F-05_V (SOT23, 6-Leads, Body 3x1.5mm, Pitch 0.95mm)
pins: 1 I/O, 2 VN (power), 3 I/O, 4 I/O, 5 VP (power), 6 I/O

## NUP4301MR6T1G
designator U?
Low Capacitance Diode Array for ESD Protection in Four Data Lines, 6-Pin SC-74, Pb-Free, Tape and Reel; Manufacturer: On Semiconductor; PartNumber: NUP4301MR6T1G; Direction: Bidirectional; Number of Lines: 4; V(BR) Min (V): 70; DatasheetVersion: Rev. 6; PackageVersion: Rev. N, 06/2012; PackageReference: SC-74-6-318F-05; PackageDescription: 6-Pin Small Outline Transistor, Body 3 x 1.5 mm, Pitch 0.95 mm; Supplier 1: Digi-Key; Supplier Part Number 1: NUP4301MR6T1GOSTR-ND; Supplier 2: Digi-Key; Supplier Part Number 2: NUP4301MR6T1GOSCT-ND; Supplier 3: Digi-Key; Supplier Part Number 3: NUP4301MR6T1GOSDKR-ND; Supplier 4: Farnell; Supplier Part Number 4: 2317509; Supplier 5: Newark; Supplier Part Number 5: 06R3479; Supplier 6: Newark; Supplier Part Number 6: 45J2205; Supplier 7: Mouser; Supplier Part Number 7: 863-NUP4301MR6T1G; Packing: Tape and Reel; RoHS: Pb-Free; Mounting Technology: Surface Mount; ComponentLink1Description: Manufacturer URL; ComponentLink1URL: http://www.onsemi.com/; ComponentLink2Description: Datasheet; ComponentLink2URL: http://www.onsemi.com/pub/Collateral/NUP4301MR6T1-D.PDF; ComponentLink3Description: Package Specification; ComponentLink3URL: http://www.onsemi.com/pub_link/Collateral/318F-05.PDF
footprint ONSC-SC-74-6-318F-05_V (SOT23, 6-Leads, Body 3x1.5mm, Pitch 0.95mm)
pins: 1 I/O, 2 VN (power), 3 I/O, 4 I/O, 5 VP (power), 6 I/O

## NUP4302MR6T1
designator U?
Schottky Diode Array for Four Data Line ESD Protection, 6-Pin TSOP, Tape and Reel; Manufacturer: On Semiconductor; PartNumber: NUP4302MR6T1; Direction: Bidirectional; IR Max (uA): 30; Number of Lines: 4; DatasheetVersion: Rev. 3; PackageVersion: Rev. V, 06/2012; PackageReference: TSOP-6-318G-02; PackageDescription: 6-Pin Small Outline Package, Body 3 x 1.5 mm, Pitch 0.95 mm; Supplier 1: Digi-Key; Supplier Part Number 1: NUP4302MR6T1-ND; Packing: Tape and Reel; V(BR) Min (V): 30; Mounting Technology: Surface Mount; ComponentLink1Description: Manufacturer URL; ComponentLink1URL: http://www.onsemi.com/; ComponentLink2Description: Datasheet; ComponentLink2URL: http://www.onsemi.com/pub_link/Collateral/NUP4302MR6.PDF; ComponentLink3Description: Package Specification; ComponentLink3URL: http://www.onsemi.com/pub_link/Collateral/318G-02.PDF
footprint ONSC-TSOP-6-318G-02_V (SOP, 6-Leads, Body 3x1.5mm, Pitch 0.95mm)
pins: 1 I/O, 2 GND (power), 3 I/O, 4 I/O, 5 VCC (power), 6 I/O

## NUP4302MR6T1G
designator U?
Schottky Diode Array for Four Data Line ESD Protection, 6-Pin TSOP, Pb-Free, Tape and Reel; Manufacturer: On Semiconductor; PartNumber: NUP4302MR6T1G; Direction: Bidirectional; IR Max (uA): 30; Number of Lines: 4; DatasheetVersion: Rev. 3; PackageVersion: Rev. V, 06/2012; PackageReference: TSOP-6-318G-02; PackageDescription: 6-Pin Small Outline Package, Body 3 x 1.5 mm, Pitch 0.95 mm; Supplier 1: Digi-Key; Supplier Part Number 1: NUP4302MR6T1GOSTR-ND; Supplier 2: Digi-Key; Supplier Part Number 2: NUP4302MR6T1GOSCT-ND; Supplier 3: Digi-Key; Supplier Part Number 3: NUP4302MR6T1GOSDKR-ND; Supplier 4: Farnell; Supplier Part Number 4: 2317481; Supplier 5: Newark; Supplier Part Number 5: 85W2846; Supplier 6: Newark; Supplier Part Number 6: 42K2483; Supplier 7: Mouser; Supplier Part Number 7: 863-NUP4302MR6T1G; Packing: Tape and Reel; RoHS: Pb-Free; V(BR) Min (V): 30; Mounting Technology: Surface Mount; ComponentLink1Description: Manufacturer URL; ComponentLink1URL: http://www.onsemi.com/; ComponentLink2Description: Datasheet; ComponentLink2URL: http://www.onsemi.com/pub_link/Collateral/NUP4302MR6.PDF; ComponentLink3Description: Package Specification; ComponentLink3URL: http://www.onsemi.com/pub_link/Collateral/318G-02.PDF
footprint ONSC-TSOP-6-318G-02_V (SOP, 6-Leads, Body 3x1.5mm, Pitch 0.95mm)
pins: 1 I/O, 2 GND (power), 3 I/O, 4 I/O, 5 VCC (power), 6 I/O

## NUP4304MR6T1
designator U?
Low Capacitance Diode Array for ESD Protection in Four Data Lines, 6-Pin SC-74, Tape and Reel; Manufacturer: On Semiconductor; PartNumber: NUP4304MR6T1; Direction: Bidirectional; Number of Lines: 4; V(BR) Min (V): 70; DatasheetVersion: Rev. 4; PackageVersion: Rev. N, 06/2012; PackageReference: SC-74-6-318F-05; PackageDescription: 6-Pin Small Outline Transistor, Body 3 x 1.5 mm, Pitch 0.95 mm; Supplier 1: Digi-Key; Supplier Part Number 1: NUP4304MR6T1-ND; Packing: Tape and Reel; Mounting Technology: Surface Mount; ComponentLink1Description: Manufacturer URL; ComponentLink1URL: http://www.onsemi.com/; ComponentLink2Description: Datasheet; ComponentLink2URL: http://www.onsemi.com/pub_link/Collateral/NUP4304M6-D.PDF; ComponentLink3Description: Package Specification; ComponentLink3URL: http://www.onsemi.com/pub_link/Collateral/318F-05.PDF
footprint ONSC-SC-74-6-318F-05_V (SOT23, 6-Leads, Body 3x1.5mm, Pitch 0.95mm)
pins: 1 I/O, 2 VP (power), 3 I/O, 4 I/O, 5 VN (power), 6 I/O

## NUP4304MR6T1G
designator U?
Low Capacitance Diode Array for ESD Protection in Four Data Lines, 6-Pin SC-74, Pb-Free, Tape and Reel; Manufacturer: On Semiconductor; PartNumber: NUP4304MR6T1G; Direction: Bidirectional; Number of Lines: 4; V(BR) Min (V): 70; DatasheetVersion: Rev. 4; PackageVersion: Rev. N, 06/2012; PackageReference: SC-74-6-318F-05; PackageDescription: 6-Pin Small Outline Transistor, Body 3 x 1.5 mm, Pitch 0.95 mm; Supplier 1: Digi-Key; Supplier Part Number 1: NUP4304MR6T1GOSTR-ND; Supplier 2: Digi-Key; Supplier Part Number 2: NUP4304MR6T1GOSCT-ND; Supplier 3: Digi-Key; Supplier Part Number 3: NUP4304MR6T1GOSDKR-ND; Supplier 4: Farnell; Supplier Part Number 4: 2317501; Supplier 5: Newark; Supplier Part Number 5: 85W2848; Supplier 6: Newark; Supplier Part Number 6: 45J2207; Supplier 7: Mouser; Supplier Part Number 7: 863-NUP4304MR6T1G; Packing: Tape and Reel; RoHS: Pb-Free; Mounting Technology: Surface Mount; ComponentLink1Description: Manufacturer URL; ComponentLink1URL: http://www.onsemi.com/; ComponentLink2Description: Datasheet; ComponentLink2URL: http://www.onsemi.com/pub_link/Collateral/NUP4304M6-D.PDF; ComponentLink3Description: Package Specification; ComponentLink3URL: http://www.onsemi.com/pub_link/Collateral/318F-05.PDF
footprint ONSC-SC-74-6-318F-05_V (SOT23, 6-Leads, Body 3x1.5mm, Pitch 0.95mm)
pins: 1 I/O, 2 VP (power), 3 I/O, 4 I/O, 5 VN (power), 6 I/O

## NUP5120X6T1
designator U?
5-Line Transient Voltage Suppressor Array, 6-Pin SOT-563, Pb-Free, Tape and Reel; Manufacturer: On Semiconductor; PartNumber: NUP5120X6T1; C Max (pF): 70; Direction: Unidirectional; IR Max (uA): 0.5; Number of Lines: 5; PPK Max (W): 90; V(BR) Min (V): 6.2; DatasheetVersion: Rev. 4; PackageVersion: Rev. F, 04/2005; PackageReference: SOT-563-6-463A-01; PackageDescription: 6-Pin Small Outline Transistor, Body 1.6 x 1.2 mm, Pitch 0.5 mm; Supplier 1: Digi-Key; Supplier Part Number 1: NUP5120X6T1-ND; Supplier 2: Mouser; Supplier Part Number 2: 863-NUP5120X6T1; Packing: Tape and Reel; RoHS: Pb-Free; VRWM Max (V): 5; Mounting Technology: Surface Mount; ComponentLink1Description: Manufacturer URL; ComponentLink1URL: http://www.onsemi.com/; ComponentLink2Description: Datasheet; ComponentLink2URL: http://www.onsemi.com/pub_link/Collateral/NUP5120-D.PDF; ComponentLink3Description: Package Specification; ComponentLink3URL: http://www.onsemi.cn/pub_link/Collateral/463A-01.PDF
footprint ONSC-SOT-563-6-463A-01_V (SOT23, 6-Leads, Body 1.6x1.2mm, Pitch 0.5mm)
pins: 1 K1, 2 A, 3 K2, 4 K3, 5 K4, 6 K5

## NUP5120X6T1G
designator U?
5-Line Transient Voltage Suppressor Array, 6-Pin SOT-563, Pb-Free, Tape and Reel; Manufacturer: On Semiconductor; PartNumber: NUP5120X6T1G; C Max (pF): 70; Direction: Unidirectional; IR Max (uA): 0.5; Number of Lines: 5; PPK Max (W): 90; V(BR) Min (V): 6.2; DatasheetVersion: Rev. 4; PackageVersion: Rev. F, 04/2005; PackageReference: SOT-563-6-463A-01; PackageDescription: 6-Pin Small Outline Transistor, Body 1.6 x 1.2 mm, Pitch 0.5 mm; Supplier 1: Digi-Key; Supplier Part Number 1: NUP5120X6T1GOSTR-ND; Supplier 2: Digi-Key; Supplier Part Number 2: NUP5120X6T1GOSCT-ND; Supplier 3: Newark; Supplier Part Number 3: 42K2484; Supplier 4: Mouser; Supplier Part Number 4: 863-NUP5120X6T1G; Packing: Tape and Reel; RoHS: Pb-Free; VRWM Max (V): 5; Mounting Technology: Surface Mount; ComponentLink1Description: Manufacturer URL; ComponentLink1URL: http://www.onsemi.com/; ComponentLink2Description: Datasheet; ComponentLink2URL: http://www.onsemi.com/pub_link/Collateral/NUP5120-D.PDF; ComponentLink3Description: Package Specification; ComponentLink3URL: http://www.onsemi.cn/pub_link/Collateral/463A-01.PDF
footprint ONSC-SOT-563-6-463A-01_V (SOT23, 6-Leads, Body 1.6x1.2mm, Pitch 0.5mm)
pins: 1 K1, 2 A, 3 K2, 4 K3, 5 K4, 6 K5

## NUP5120X6T2
designator U?
5-Line Transient Voltage Suppressor Array, 6-Pin SOT-563, Pb-Free, Tape and Reel; Manufacturer: On Semiconductor; PartNumber: NUP5120X6T2; C Max (pF): 70; Direction: Unidirectional; IR Max (uA): 0.5; Number of Lines: 5; PPK Max (W): 90; V(BR) Min (V): 6.2; DatasheetVersion: Rev. 4; PackageVersion: Rev. F, 04/2005; PackageReference: SOT-563-6-463A-01; PackageDescription: 6-Pin Small Outline Transistor, Body 1.6 x 1.2 mm, Pitch 0.5 mm; Supplier 1: Digi-Key; Supplier Part Number 1: NUP5120X6T2-ND; Supplier 2: Mouser; Supplier Part Number 2: 863-NUP5120X6T2; Packing: Tape and Reel; RoHS: Pb-Free; VRWM Max (V): 5; Mounting Technology: Surface Mount; ComponentLink1Description: Manufacturer URL; ComponentLink1URL: http://www.onsemi.com/; ComponentLink2Description: Datasheet; ComponentLink2URL: http://www.onsemi.com/pub_link/Collateral/NUP5120-D.PDF; ComponentLink3Description: Package Specification; ComponentLink3URL: http://www.onsemi.cn/pub_link/Collateral/463A-01.PDF
footprint ONSC-SOT-563-6-463A-01_V (SOT23, 6-Leads, Body 1.6x1.2mm, Pitch 0.5mm)
pins: 1 K1, 2 A, 3 K2, 4 K3, 5 K4, 6 K5

## NUP5120X6T2G
designator U?
5-Line Transient Voltage Suppressor Array, 6-Pin SOT-563, Pb-Free, Tape and Reel; Manufacturer: On Semiconductor; PartNumber: NUP5120X6T2G; C Max (pF): 70; Direction: Unidirectional; IR Max (uA): 0.5; Number of Lines: 5; PPK Max (W): 90; V(BR) Min (V): 6.2; DatasheetVersion: Rev. 4; PackageVersion: Rev. F, 04/2005; PackageReference: SOT-563-6-463A-01; PackageDescription: 6-Pin Small Outline Transistor, Body 1.6 x 1.2 mm, Pitch 0.5 mm; Supplier 1: Digi-Key; Supplier Part Number 1: NUP5120X6T2GOSTR-ND; Supplier 2: Digi-Key; Supplier Part Number 2: NUP5120X6T2GOSCT-ND; Supplier 3: Mouser; Supplier Part Number 3: 863-NUP5120X6T2G; Packing: Tape and Reel; RoHS: Pb-Free; VRWM Max (V): 5; Mounting Technology: Surface Mount; ComponentLink1Description: Manufacturer URL; ComponentLink1URL: http://www.onsemi.com/; ComponentLink2Description: Datasheet; ComponentLink2URL: http://www.onsemi.com/pub_link/Collateral/NUP5120-D.PDF; ComponentLink3Description: Package Specification; ComponentLink3URL: http://www.onsemi.cn/pub_link/Collateral/463A-01.PDF
footprint ONSC-SOT-563-6-463A-01_V (SOT23, 6-Leads, Body 1.6x1.2mm, Pitch 0.5mm)
pins: 1 K1, 2 A, 3 K2, 4 K3, 5 K4, 6 K5

## NUP5120X6T2GH
designator U?
5-Line Transient Voltage Suppressor Array, 6-Pin SOT-563, Pb-Free, Tape and Reel; Manufacturer: On Semiconductor; PartNumber: NUP5120X6T2GH; C Max (pF): 70; Direction: Unidirectional; IR Max (uA): 0.5; Number of Lines: 5; PPK Max (W): 90; V(BR) Min (V): 6.2; DatasheetVersion: Rev. 4; PackageVersion: Rev. F, 04/2005; PackageReference: SOT-563-6-463A-01; PackageDescription: 6-Pin Small Outline Transistor, Body 1.6 x 1.2 mm, Pitch 0.5 mm; Supplier 1: Mouser; Supplier Part Number 1: N/A; Packing: Tape and Reel; RoHS: Pb-Free; VRWM Max (V): 5; Mounting Technology: Surface Mount; ComponentLink1Description: Manufacturer URL; ComponentLink1URL: http://www.onsemi.com/; ComponentLink2Description: Datasheet; ComponentLink2URL: http://www.onsemi.com/pub_link/Collateral/NUP5120-D.PDF; ComponentLink3Description: Package Specification; ComponentLink3URL: http://www.onsemi.cn/pub_link/Collateral/463A-01.PDF
footprint ONSC-SOT-563-6-463A-01_V (SOT23, 6-Leads, Body 1.6x1.2mm, Pitch 0.5mm)
pins: 1 K1, 2 A, 3 K2, 4 K3, 5 K4, 6 K5

## NUP5150MUTBG
designator U?
5-Line Transient Voltage Suppressor Array, 6-Pin UDFN, Pb-Free, Tape and Reel; Manufacturer: On Semiconductor; PartNumber: NUP5150MUTBG; C Max (pF): 15; Direction: Unidirectional; IR Max (uA): 0.1; Number of Lines: 5; V(BR) Min (V): 6.2; DatasheetVersion: Rev. 0; PackageVersion: Rev. D, 09/2010; PackageReference: UDFN-6-517AA-01; PackageDescription: 6-Pin Small Outline No-Lead, Body 1.2 x 1 mm, Pitch 0.4 mm; Supplier 1: Digi-Key; Supplier Part Number 1: NUP5150MUTBG-ND; Supplier 2: Mouser; Supplier Part Number 2: 863-NUP5150MUTBG; Packing: Tape and Reel; RoHS: Pb-Free; VRWM Max (V): 5; Mounting Technology: Surface Mount; ComponentLink1Description: Manufacturer URL; ComponentLink1URL: http://www.onsemi.com/; ComponentLink2Description: Datasheet; ComponentLink2URL: http://www.onsemi.com/pub_link/Collateral/NUP5150-D.PDF; ComponentLink3Description: Package Specification; ComponentLink3URL: http://www.onsemi.com/pub_link/Collateral/517AA.PDF
footprint ONSC-UDFN-6-517AA-01_V (SON, 6-Leads, Body 1.2x1mm, Pitch 0.4mm)
pins: 1 K1, 2 A, 3 K2, 4 K3, 5 K4, 6 K5

## NUP8011MUTAG
designator U?
Transient Voltage Suppressor, ESD Protection Diodes with Low Clamping Voltage Array, 8-Pin UDFN, Pb-Free, Tape and Reel; Manufacturer: On Semiconductor; PartNumber: NUP8011MUTAG; Direction: Unidirectional; IR Max (uA): 1; Number of Lines: 8; V(BR) Min (V): 6.47; VRWM Max (V): 4.3; DatasheetVersion: Rev. 2; PackageVersion: Rev. D, 10/2012; PackageReference: UDFN-8-517AD; PackageDescription: 8-Pin Small Outline No-Lead, Body 1.8 x 1.2 mm, Pitch 0.4 mm; Supplier 1: Digi-Key; Supplier Part Number 1: NUP8011MUTAGOSTR-ND; Supplier 2: Digi-Key; Supplier Part Number 2: NUP8011MUTAGOSCT-ND; Supplier 3: Digi-Key; Supplier Part Number 3: NUP8011MUTAGOSDKR-ND; Supplier 4: Mouser; Supplier Part Number 4: 863-NUP8011MUTAG; Packing: Tape and Reel; RoHS: Pb-Free; Mounting Technology: Surface Mount; ComponentLink1Description: Manufacturer URL; ComponentLink1URL: http://www.onsemi.com/; ComponentLink2Description: Datasheet; ComponentLink2URL: http://www.onsemi.com/pub_link/Collateral/NUP8011MU-D.PDF; ComponentLink3Description: Package Specification; ComponentLink3URL: http://www.onsemi.com/pub_link/Collateral/517AD.PDF
footprint ONSC-UDFN-8-517AD_V (SON, 8-Leads, Body 1.8x1.2mm, Pitch 0.4mm, Thermal Pad 0.35x1.1mm)
pins: 1, 2, 3, 4, 5, 6, 7, 8, 9 EP

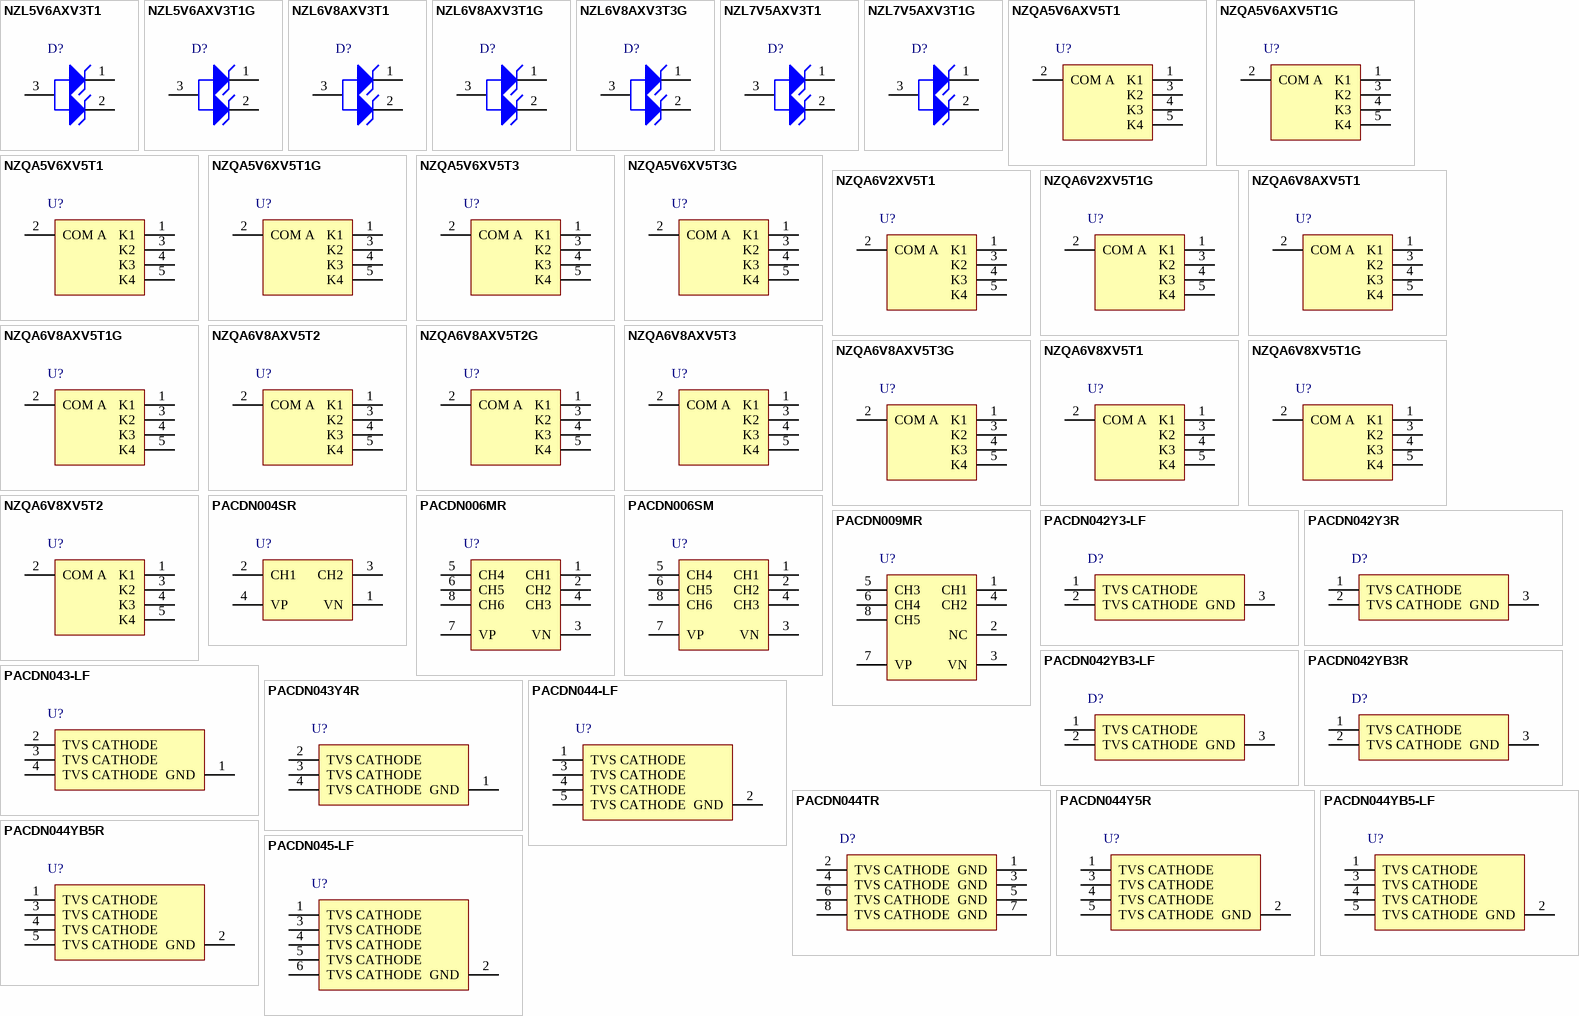
[diagram p5: symbols NZL5V6AXV3T1 to PACDN045-LF]

## NZL5V6AXV3T1
designator D?
Dual Common Anode ESD Protection Diode, 3-Pin SC-89, Pb-Free, Tape and Reel; Manufacturer: On Semiconductor; PartNumber: NZL5V6AXV3T1; Direction: Unidirectional; IR Max (uA): 5; Number of Lines: 2; V(BR) Min (V): 5.32; VRWM Max (V): 3; DatasheetVersion: Rev. 5; PackageVersion: Rev. C, 07/2003; PackageReference: SC-89-3-463C-02; PackageDescription: 3-Pin Small Outline Transistor, Body 1.6 x 0.85 mm, Pitch 0.5 mm; Supplier 1: Digi-Key; Supplier Part Number 1: NZL5V6AXV3T1OSTR-ND; Supplier 2: Digi-Key; Supplier Part Number 2: NZL5V6AXV3T1OSCT-ND; Supplier 3: Mouser; Supplier Part Number 3: N/A; Packing: Tape and Reel; RoHS: Pb-Free; Mounting Technology: Surface Mount; ComponentLink1Description: Manufacturer URL; ComponentLink1URL: http://www.onsemi.com/; ComponentLink2Description: Datasheet; ComponentLink2URL: http://www.onsemi.com/pub_link/Collateral/NZL5V6AXV3T1-D.PDF; ComponentLink3Description: Package Specification; ComponentLink3URL: http://www.onsemi.com/pub_link/Collateral/463C-02.PDF
footprint ONSC-SC-89-3-463C-02_V (SOT23, 3-Leads, Body 1.6x0.85mm, Pitch 0.5mm)
pins: 1 K1, 2 K2, 3 A